# Altium footprint library ESP32WROOM32EM113EH3200PH3Q0.PcbLib: 1 footprints
Each footprint in its own frame and in the unit in brackets; x right, y up, seen from the top. Pads: shape width x height; smd on the part's side, far side on the other; paste and mask are expansions set on the pad; w line width, h text height; cw(c..) or ccw(c..) is an arc to the next point about the centre after c.
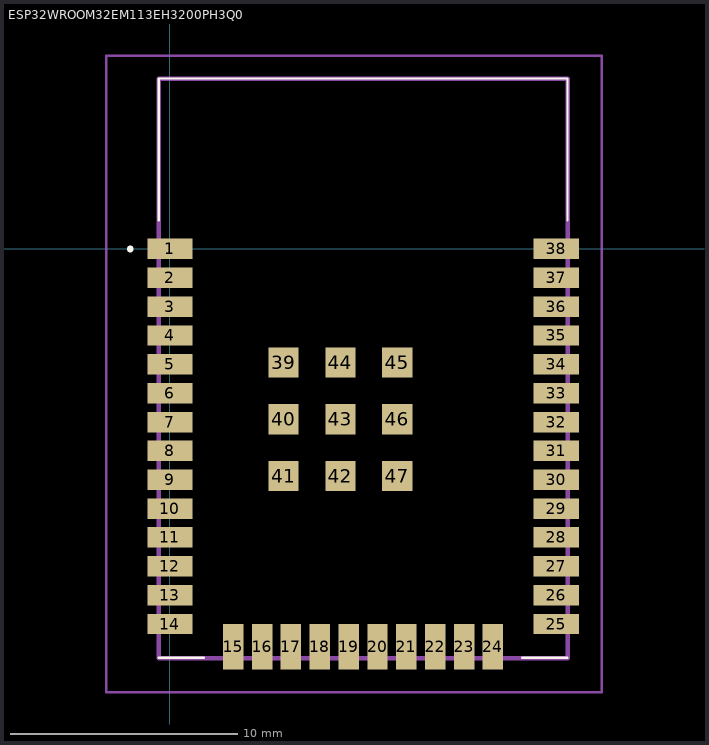
[diagram p0: the footprint, top view; thin cyan lines are the x and y axes]

## ESP32WROOM32EM113EH3200PH3Q0 [mm]
pads (47):
  rect 2x0.9 smd: 1(0,0) 2(0,-1.27) 3(0,-2.54) 4(0,-3.81) 5(0,-5.08) 6(0,-6.35) 7(0,-7.62) 8(0,-8.89) 9(0,-10.16) 10(0,-11.43) 11(0,-12.7) 12(0,-13.97) 13(0,-15.24) 14(0,-16.51) 25(17,-16.51) 26(17,-15.24) 27(17,-13.97) 28(17,-12.7) 29(17,-11.43) 30(17,-10.16) 31(17,-8.89) 32(17,-7.62) 33(17,-6.35) 34(17,-5.08) 35(17,-3.81) 36(17,-2.54) 37(17,-1.27) 38(17,0)
  rect 0.9x2 smd: 15(2.785,-17.51) 16(4.055,-17.51) 17(5.325,-17.51) 18(6.595,-17.51) 19(7.865,-17.51) 20(9.135,-17.51) 21(10.405,-17.51) 22(11.675,-17.51) 23(12.945,-17.51) 24(14.215,-17.51)
  rect 1.33x1.33 smd: 39(5,-5) 40(5,-7.5) 41(5,-10) 42(7.5,-10) 43(7.5,-7.5) 44(7.5,-5) 45(10,-5) 46(10,-7.5) 47(10,-10)
Top Overlay:
  lines w0.1: -0.5,-18 1.5,-18 ; -0.5,-18 1.5,-18 ; -0.5,-18 -0.5,-18 ; -0.5,1.25 -0.5,1.25 ; -0.5,1.25 -0.5,7.5 ; -0.5,1.25 -0.5,7.5 ; -0.5,7.5 17.5,7.5 ; -0.5,7.5 17.5,7.5 ; -0.5,7.5 -0.5,7.5 ; -0.5,7.5 -0.5,7.5 ; 1.5,-18 1.5,-18 ; 15.5,-18 17.5,-18 ; 15.5,-18 17.5,-18 ; 15.5,-18 15.5,-18 ; 17.5,-18 17.5,-18 ; 17.5,1.25 17.5,7.5 ; 17.5,1.25 17.5,1.25 ; 17.5,1.25 17.5,7.5 ; 17.5,7.5 17.5,7.5 ; 17.5,7.5 17.5,7.5
  lines w0.2: -1.8,0 -1.8,0 ; -1.8,0 ccw(c-1.75,0) -1.7,0 ; -1.8,0 cw(c-1.75,0) -1.7,0 ; -1.8,0 -1.8,0 ; -1.8,0 ccw(c-1.75,0) -1.7,0 ; -1.7,0 -1.7,0
Mechanical 15:
  lines w0.2: -0.5,-18.01 17.5,-18.01 17.5,7.49 -0.5,7.49 -0.5,-18.01
Mechanical 20:
  lines w0.1: -2.8,-19.51 19,-19.51 19,8.5 -2.8,8.5 -2.8,-19.51